# EAGLE library part XF2M-3515-1A (library Parts for D-DAQ)
35-pin FPC/FFC Connector
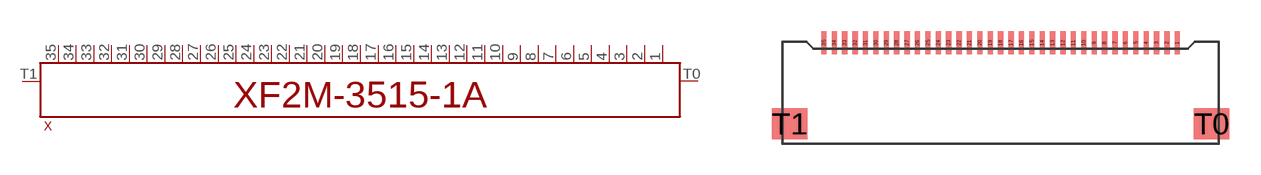
[diagram p13: symbol with the pads of XF2M-3515-1A; footprint XF2M-3515-1A]

Designator prefix X

## XF2M-3515-1A  [XF2M-3515-1A]
1  P$1  pas
2  P$2  pas
3  P$3  pas
4  P$4  pas
5  P$5  pas
6  P$6  pas
7  P$7  pas
8  P$8  pas
9  P$9  pas
10  P$10  pas
11  P$11  pas
12  P$12  pas
13  P$13  pas
14  P$14  pas
15  P$15  pas
16  P$16  pas
17  P$17  pas
18  P$18  pas
19  P$19  pas
20  P$20  pas
21  P$21  pas
22  P$22  pas
23  P$23  pas
24  P$24  pas
25  P$25  pas
26  P$26  pas
27  P$27  pas
28  P$28  pas
29  P$29  pas
30  P$30  pas
31  P$31  pas
32  P$32  pas
33  P$33  pas
34  P$34  pas
35  P$35  pas
T0  T0  pas
T1  T1  pas

## Footprint XF2M-3515-1A (pad centres in mm)
smd 0.25 x 1.1: 1 8.5,1.95; 2 8,1.95; 3 7.5,1.95; 4 7,1.95; 5 6.5,1.95; 6 6,1.95; 7 5.5,1.95; 8 5,1.95; 9 4.5,1.95; 10 4,1.95; 11 3.5,1.95; 12 3,1.95; 13 2.5,1.95; 14 2,1.95; 15 1.5,1.95; 16 1,1.95; 17 0.5,1.95; 18 0,1.95; 19 -0.5,1.95; 20 -1,1.95; 21 -1.5,1.95; 22 -2,1.95; 23 -2.5,1.95; 24 -3,1.95; 25 -3.5,1.95; 26 -4,1.95; 27 -4.5,1.95; 28 -5,1.95; 29 -5.5,1.95; 30 -6,1.95; 31 -6.5,1.95; 32 -7,1.95; 33 -7.5,1.95; 34 -8,1.95; 35 -8.5,1.95
smd 1.7 x 1.5: T0 10.15,-1.95; T1 -10.15,-1.95